# Altium integrated library 1206J0630104MXT.IntLib: 1 symbol
Pins are listed as number, name and electrical type; pins without a type are passive.

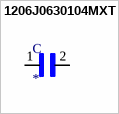
[diagram p0: symbol 1206J0630104MXT]

## 1206J0630104MXT
designator C
0.1ÂµF Â±20% 63V Ceramic Capacitor X7R (2R1) 1206 (3216 Metric); MP: 1206J0630104MXT; MF: Knowles Syfer; SnapEDA_Link: https://www.snapeda.com/parts/1206J0630104MXT/Knowles%20Syfer/view-part/4314687/?ref=snap; DigiKey-Purchase-URL: https://snapeda.com/shop?store=DigiKey&id=4314687; Mouser-Purchase-URL: https://snapeda.com/shop?store=Mouser&id=4314687; Value: *; Digi-Key_Part_Number: 1608-1392-1-ND; Package: 3216 Knowles Syfer
footprint CAPC3216X160N
pins: 1, 2